# Altium schematic symbol library MECHANICAL.SchLib: 24 symbols
Pins are listed as number, name and electrical type; pins without a type are passive.

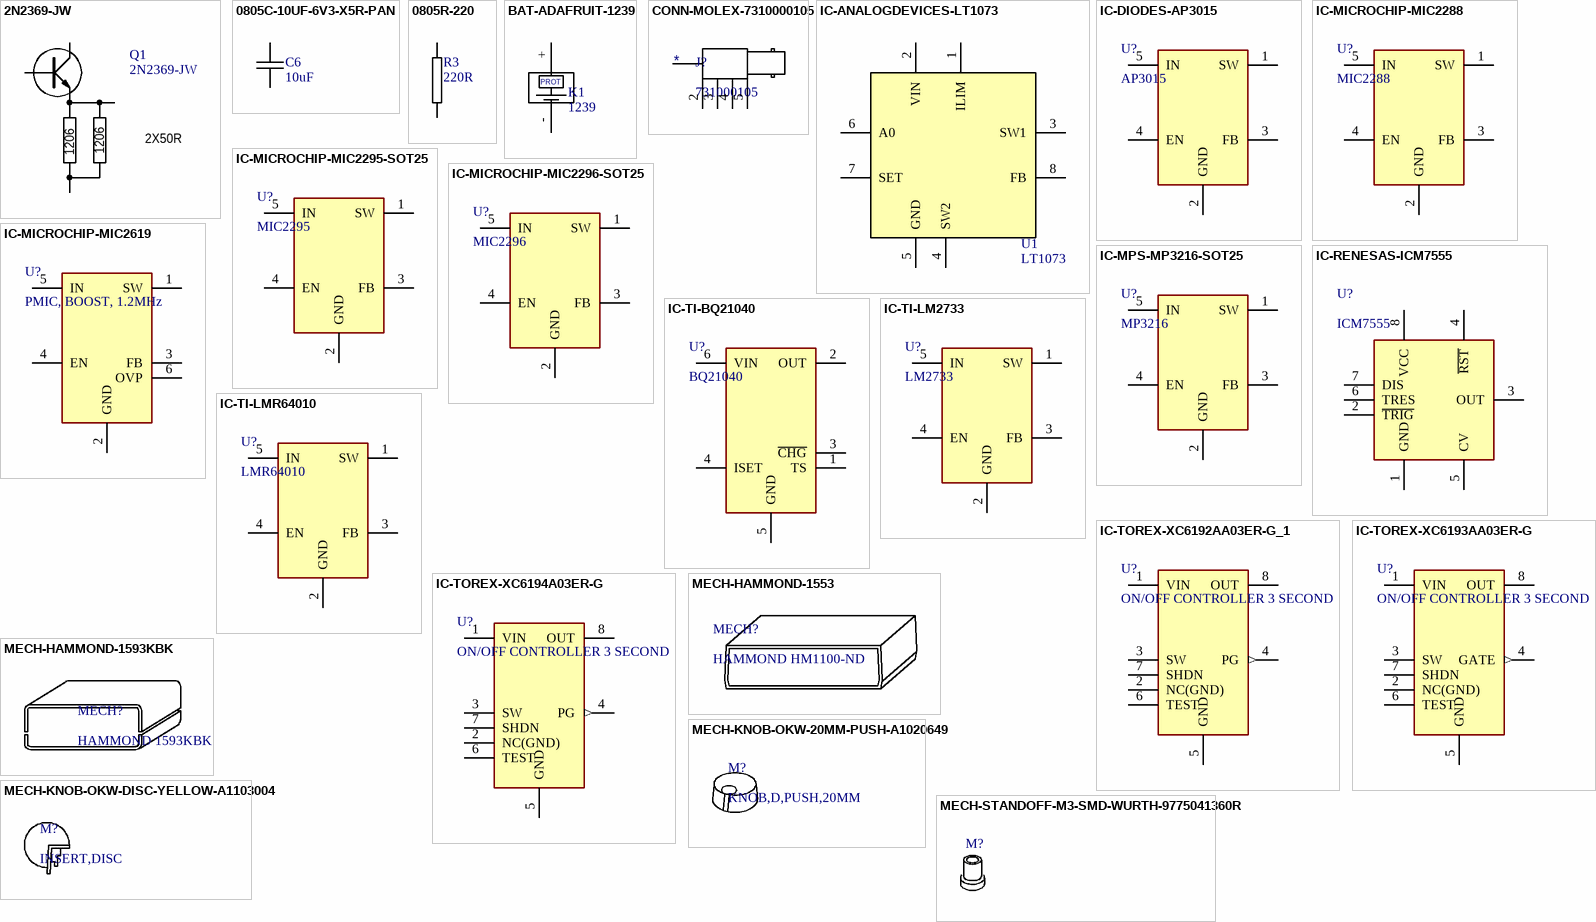
[diagram p0: symbols 2N2369-JW to MECH-STANDOFF-M3-SMD-WURTH-9775041360R]

## 2N2369-JW
designator Q1
Supplier 1: Mouser; Supplier Part Number 1: 610-2N2369A
footprint JW2N2369 (Footprint not found)
pins: B, C, G
text: 1206; 2X50R

## 0805C-10UF-6V3-X5R-PAN
designator C6, comment 10uF
CAPACITOR 0805 CERAMIC; Manufacturer: Panasonic - ECG; Manufacturer Part Number: ECJ-2FB0J106M; Reel: C1; Capacitance: 10µF; Voltage - Rated: 6.3V; Temperature Coefficient: X5R; Tolerance: ±20%; Supplier 1: Digi-Key; Supplier Part Number 1: PCC2225TR-ND; Supplier: Digi-Key; Operating Temperature: -55°C ~ 85°C; Mounting Type: Surface Mount, MLCC; Lead Spacing: -; RoHS: RoHS Compliant; Packaging: Tape & Reel (TR); Thickness: 1.25mm; Package / Case: 0805 (2012 metric); Features: General Purpose; Category: Capacitors; Supplier Part Number: PCC2225TR-ND
footprint 0805C-GENERIC (CAPACITOR 0805)
pins: 1, 2

## 0805R-220
designator R3, comment 220R
RESISTOR 0805 1/4 WATT THIN FILM; Reel: *
footprint 0805R-220 (RESISTOR 0805)
pins: 1, 2

## BAT-ADAFRUIT-1239
designator K1, comment 1239
BU2032SM-HD-G; Supplier 1: Digi-Key; Supplier Part Number 1: BU2032SM-HD-GDKR-ND
footprint BATCLIP-CR2032 (BATTERY CLIP 2032 SMD)
pins: +, -
text: PROT

## CONN-MOLEX-7310000105
designator J?, comment 731000105
CONN,BNC,RA
pins: 2 VIN, 3 VIN, 4 VIN, 5 VIN

## IC-ANALOGDEVICES-LT1073
designator U1, comment LT1073
footprint SO8
pins: 1 ILIM, 2 VIN, 3 SW1, 4 SW2, 5 GND, 6 A0, 7 SET, 8 FB

## IC-DIODES-AP3015
designator U?, comment AP3015
pins: 1 SW, 2 GND, 3 FB, 4 EN, 5 IN

## IC-MICROCHIP-MIC2288
designator U?, comment MIC2288
pins: 1 SW, 2 GND, 3 FB, 4 EN, 5 IN

## IC-MICROCHIP-MIC2295-SOT25
designator U?, comment MIC2295
pins: 1 SW, 2 GND, 3 FB, 4 EN, 5 IN

## IC-MICROCHIP-MIC2296-SOT25
designator U?, comment MIC2296
pins: 1 SW, 2 GND, 3 FB, 4 EN, 5 IN

## IC-MICROCHIP-MIC2619
designator U?, comment PMIC, BOOST, 1.2MHz
pins: 1 SW, 2 GND, 3 FB, 4 EN, 5 IN, 6 OVP

## IC-MPS-MP3216-SOT25
designator U?, comment MP3216
pins: 1 SW, 2 GND, 3 FB, 4 EN, 5 IN

## IC-RENESAS-ICM7555
designator U?, comment ICM7555
pins: 1 GND, 2 ~{TRIG}, 3 OUT, 4 ~{RST}, 5 CV, 6 TRES, 7 DIS, 8 VCC

## IC-TI-BQ21040
designator U?, comment BQ21040
LiION CHARGER
pins: 1 TS, 2 OUT, 3 ~{CHG}, 4 ISET, 5 GND, 6 VIN

## IC-TI-LM2733
designator U?, comment LM2733
pins: 1 SW, 2 GND, 3 FB, 4 EN, 5 IN

## IC-TI-LMR64010
designator U?, comment LMR64010
pins: 1 SW, 2 GND, 3 FB, 4 EN, 5 IN

## IC-TOREX-XC6192AA03ER-G_1
designator U?, comment ON/OFF CONTROLLER 3 SECOND
pins: 1 VIN, 2 NC(GND), 3 SW, 4 PG (out), 5 GND, 6 TEST, 7 SHDN, 8 OUT

## IC-TOREX-XC6193AA03ER-G
designator U?, comment ON/OFF CONTROLLER 3 SECOND
pins: 1 VIN, 2 NC(GND), 3 SW, 4 GATE (out), 5 GND, 6 TEST, 7 SHDN, 8 OUT

## IC-TOREX-XC6194A03ER-G
designator U?, comment ON/OFF CONTROLLER 3 SECOND
pins: 1 VIN, 2 NC(GND), 3 SW, 4 PG (out), 5 GND, 6 TEST, 7 SHDN, 8 OUT

## MECH-HAMMOND-1553
designator MECH?, comment HAMMOND HM1100-ND  (mechanical)
ENCLOSURE,ABS,GRAY,HAMMOND, RM2095M; DIGIKEY: HM1100-ND; Manufacturer 1: HAMMOND; Manufacturer Part Number 1: RM2095M

## MECH-HAMMOND-1593KBK
designator MECH?, comment HAMMOND 1593KBK  (mechanical)
ENCLOSURE,ABS,GRAY,HAMMOND, 1593KBK; DIGIKEY: HM355-ND; MOUSER: 546-1593KBK; Manufacturer 1: HAMMOND; Manufacturer Part Number 1: 1593KBK

## MECH-KNOB-OKW-20MM-PUSH-A1020649
designator M?, comment KNOB,D,PUSH,20MM  (mechanical)
KNOB,D-SHAFT,VOLCANO,20mm,OKW,A1020649; Manufacturer 1: OKW; Manufacturer Part Number 1: A1020649; TME: A1020649

## MECH-KNOB-OKW-DISC-YELLOW-A1103004
designator M?, comment INSERT,DISC  (mechanical)
KNOB,INSERT,DISC,YELLOW,OKW,A1103004; Manufacturer 1: OKW; Manufacturer Part Number 1: A1103004; TME: A1103004

## MECH-STANDOFF-M3-SMD-WURTH-9775041360R
designator M?, comment STANDOFF  (value not drawn)  (mechanical)
MECH,STANDOFF,M3,5.11mm,SMD,WURTH; Manufacturer Part Number 1: 9775041360R; DIGIKEY: 732-10919-1-ND; Manufacturer 1: WURTH